# Altium footprint library Hirose.PcbLib: 3 footprints
Each footprint in its own frame and in the unit in brackets; x right, y up, seen from the top. Pads: shape width x height; smd on the part's side, far side on the other; paste and mask are expansions set on the pad; w line width, h text height; cw(c..) or ccw(c..) is an arc to the next point about the centre after c.
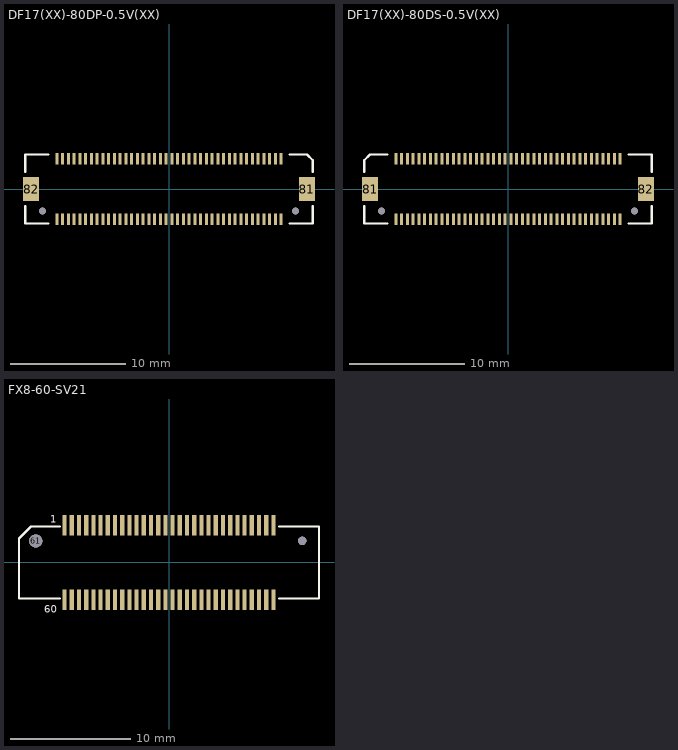
[diagram p0: the footprints below, top view; thin cyan lines are the x and y axes]

## DF17(XX)-80DP-0.5V(XX) [mm] "Receptable, SMD, 80 Pin, Pitch 0.5"
height 4
pads (82):
  rect 0.25x1 smd: 1(9.75,2.65) 2(9.75,-2.65) 3(9.25,2.65) 4(9.25,-2.65) 5(8.75,2.65) 6(8.75,-2.65) 7(8.25,2.65) 8(8.25,-2.65) 9(7.75,2.65) 10(7.75,-2.65) 11(7.25,2.65) 12(7.25,-2.65) 13(6.75,2.65) 14(6.75,-2.65) 15(6.25,2.65) 16(6.25,-2.65) 17(5.75,2.65) 18(5.75,-2.65) 19(5.25,2.65) 20(5.25,-2.65) 21(4.75,2.65) 22(4.75,-2.65) 23(4.25,2.65) 24(4.25,-2.65) 25(3.75,2.65) 26(3.75,-2.65) 27(3.25,2.65) 28(3.25,-2.65) 29(2.75,2.65) 30(2.75,-2.65) 31(2.25,2.65) 32(2.25,-2.65) 33(1.75,2.65) 34(1.75,-2.65) 35(1.25,2.65) 36(1.25,-2.65) 37(0.75,2.65) 38(0.75,-2.65) 39(0.25,2.65) 40(0.25,-2.65) 41(-0.25,2.65) 42(-0.25,-2.65) 43(-0.75,2.65) 44(-0.75,-2.65) 45(-1.25,2.65) 46(-1.25,-2.65) 47(-1.75,2.65) 48(-1.75,-2.65) 49(-2.25,2.65) 50(-2.25,-2.65) 51(-2.75,2.65) 52(-2.75,-2.65) 53(-3.25,2.65) 54(-3.25,-2.65) 55(-3.75,2.65) 56(-3.75,-2.65) 57(-4.25,2.65) 58(-4.25,-2.65) 59(-4.75,2.65) 60(-4.75,-2.65) 61(-5.25,2.65) 62(-5.25,-2.65) 63(-5.75,2.65) 64(-5.75,-2.65) 65(-6.25,2.65) 66(-6.25,-2.65) 67(-6.75,2.65) 68(-6.75,-2.65) 69(-7.25,2.65) 70(-7.25,-2.65) 71(-7.75,2.65) 72(-7.75,-2.65) 73(-8.25,2.65) 74(-8.25,-2.65) 75(-8.75,2.65) 76(-8.75,-2.65) 77(-9.25,2.65) 78(-9.25,-2.65) 79(-9.75,2.65) 80(-9.75,-2.65)
  rect 1.4x2.1 smd: 81(12,0) 82(-12,0)
via -11,-1.9 diameter 0.6 hole 0.6
via 11,-1.9 diameter 0.6 hole 0.6
Top Overlay:
  lines w0.2: -12.5,-1.5 -12.5,-3 -10.5,-3 ; -12.5,1.5 -12.5,3 -11.625,3 -10.875,3 -10.5,3 ; 10.5,-3 12.5,-3 12.5,-1.5 ; 10.5,3 12,3 12.5,2.5 12.5,1.5
3D body "DF17(2_0)-80DP-0_5V.stp": height 4.34, standoff -0.56, extent -12.5,-2.85 12.5,2.85

## DF17(XX)-80DS-0.5V(XX) [mm] "Receptable, SMD, 80 Pin, Pitch 0.5"
height 4
pads (82):
  rect 0.25x1 smd: 1(-9.75,2.65) 2(-9.75,-2.65) 3(-9.25,2.65) 4(-9.25,-2.65) 5(-8.75,2.65) 6(-8.75,-2.65) 7(-8.25,2.65) 8(-8.25,-2.65) 9(-7.75,2.65) 10(-7.75,-2.65) 11(-7.25,2.65) 12(-7.25,-2.65) 13(-6.75,2.65) 14(-6.75,-2.65) 15(-6.25,2.65) 16(-6.25,-2.65) 17(-5.75,2.65) 18(-5.75,-2.65) 19(-5.25,2.65) 20(-5.25,-2.65) 21(-4.75,2.65) 22(-4.75,-2.65) 23(-4.25,2.65) 24(-4.25,-2.65) 25(-3.75,2.65) 26(-3.75,-2.65) 27(-3.25,2.65) 28(-3.25,-2.65) 29(-2.75,2.65) 30(-2.75,-2.65) 31(-2.25,2.65) 32(-2.25,-2.65) 33(-1.75,2.65) 34(-1.75,-2.65) 35(-1.25,2.65) 36(-1.25,-2.65) 37(-0.75,2.65) 38(-0.75,-2.65) 39(-0.25,2.65) 40(-0.25,-2.65) 41(0.25,2.65) 42(0.25,-2.65) 43(0.75,2.65) 44(0.75,-2.65) 45(1.25,2.65) 46(1.25,-2.65) 47(1.75,2.65) 48(1.75,-2.65) 49(2.25,2.65) 50(2.25,-2.65) 51(2.75,2.65) 52(2.75,-2.65) 53(3.25,2.65) 54(3.25,-2.65) 55(3.75,2.65) 56(3.75,-2.65) 57(4.25,2.65) 58(4.25,-2.65) 59(4.75,2.65) 60(4.75,-2.65) 61(5.25,2.65) 62(5.25,-2.65) 63(5.75,2.65) 64(5.75,-2.65) 65(6.25,2.65) 66(6.25,-2.65) 67(6.75,2.65) 68(6.75,-2.65) 69(7.25,2.65) 70(7.25,-2.65) 71(7.75,2.65) 72(7.75,-2.65) 73(8.25,2.65) 74(8.25,-2.65) 75(8.75,2.65) 76(8.75,-2.65) 77(9.25,2.65) 78(9.25,-2.65) 79(9.75,2.65) 80(9.75,-2.65)
  rect 1.4x2.1 smd: 81(-12,0) 82(12,0)
via -11,-1.9 diameter 0.6 hole 0.6
via 11,-1.9 diameter 0.6 hole 0.6
Top Overlay:
  lines w0.2: -12.5,-1.5 -12.5,-3 -10.5,-3 ; -12.5,1.5 -12.5,2.5 -12,3 -10.5,3 ; 10.5,-3 12.5,-3 12.5,-1.5 ; 10.5,3 10.875,3 11.625,3 12.5,3 12.5,1.5
3D body "DF17(4_0)-80DS-0_5V.stp": height 4.5, standoff -0.6, extent -12.5,-2.85 12.5,2.85

## FX8-60-SV21 [mm] "Receptable, SMD, 60 Pin, Pitch 0.6"
height 2.25
pads (62):
  rect 0.35x1.7 smd paste+0 mask+0.1: 1(-8.7,3.1)
  rect 0.35x1.7 smd paste+0: 2(-8.1,3.1) 3(-7.5,3.1) 4(-6.9,3.1) 5(-6.3,3.1) 6(-5.7,3.1) 7(-5.1,3.1) 8(-4.5,3.1) 9(-3.9,3.1) 10(-3.3,3.1) 11(-2.7,3.1) 12(-2.1,3.1) 13(-1.5,3.1) 14(-0.9,3.1) 15(-0.3,3.1) 16(0.3,3.1) 17(0.9,3.1) 18(1.5,3.1) 19(2.1,3.1) 20(2.7,3.1) 21(3.3,3.1) 22(3.9,3.1) 23(4.5,3.1) 24(5.1,3.1) 25(5.7,3.1) 26(6.3,3.1) 27(6.9,3.1) 28(7.5,3.1) 29(8.1,3.1) 30(8.7,3.1) 31(8.7,-3.1) 32(8.1,-3.1) 33(7.5,-3.1) 34(6.9,-3.1) 35(6.3,-3.1) 36(5.7,-3.1) 37(5.1,-3.1) 38(4.5,-3.1) 39(3.9,-3.1) 40(3.3,-3.1) 41(2.7,-3.1) 42(2.1,-3.1) 43(1.5,-3.1) 44(0.9,-3.1) 45(0.3,-3.1) 46(-0.3,-3.1) 47(-0.9,-3.1) 48(-1.5,-3.1) 49(-2.1,-3.1) 50(-2.7,-3.1) 51(-3.3,-3.1) 52(-3.9,-3.1) 53(-4.5,-3.1) 54(-5.1,-3.1) 55(-5.7,-3.1) 56(-6.3,-3.1) 57(-6.9,-3.1) 58(-7.5,-3.1) 59(-8.1,-3.1) 60(-8.7,-3.1)
  round 1.1 hole 1.1: 61(-11.1,1.8)
  round 0.7 hole 0.7: 62(11.1,1.8)
Top Overlay:
  lines w0.2: -9.1,-3 -12.5,-3 -12.5,2 -11.5,3 -9.1,3 ; 9.2,-3 12.5,-3 12.5,3 9.2,3
  text "1" at -9.9,3.3 h0.6
  text "60" at -10.4,-4.2 h0.6